# EAGLE library part PREP-2P (library TABOR K1)
2-polovy prepinac
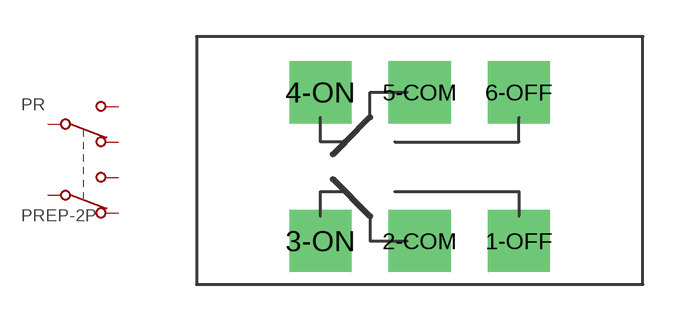
[diagram p11: symbol with the pads of IZOSTAT-2P; footprint IZOSTAT-2P]

Designator prefix PR

## PREP-2P2POL  [IZOSTAT-2P]
1-OFF  1-OFF  pas
2-COM  2-COM  pas
3-ON  3-ON  pas
4-ON  6-ON  pas
5-COM  5-COM  pas
6-OFF  4-OFF  pas

## Footprint IZOSTAT-2P (pad centres in mm)
2-polovy prepinac typu izostat
drill 0.406 pad 2.54 square: 1-OFF 4.064,-3.048; 2-COM 0,-3.048; 3-ON -4.064,-3.048; 4-ON -4.064,3.048; 5-COM 0,3.048; 6-OFF 4.064,3.048